# EAGLE library part SMR6-3W (library inductor-neosid)
TRANSFORMER SMD toroidal-core transformer with 3 windings
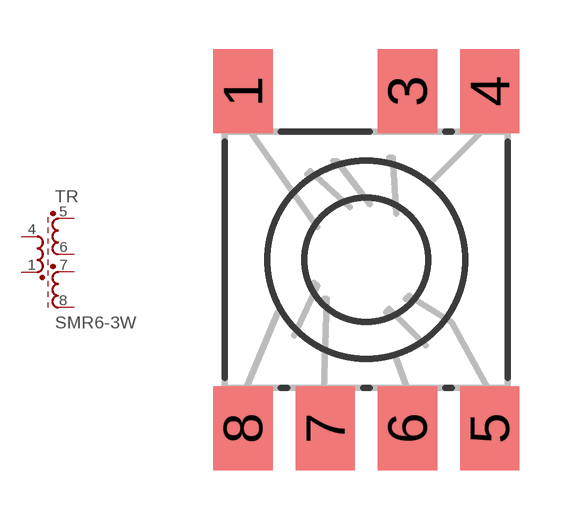
[diagram p4: symbol with the pads of SM-R6; footprint SM-R6]

Designator prefix TR

## SMR6-3W (OC_FARNELL: unknown; OC_NEWARK: unknown)  [SM-R6]
1  1  pas
4  4  pas
5  5  pas
6  6  pas
7  7  pas
8  8  pas

## Footprint SM-R6 (pad centres in mm)
SMD TOROIDAL CORE TRANSFORMER 10.8 x 8.8 x 5.5 mm
smd 1.8 x 2.55: 1 -3.75,5.125; 3 1.25,5.125; 4 3.75,5.125; 5 3.75,-5.125; 6 1.25,-5.125; 7 -1.25,-5.125; 8 -3.75,-5.125